# Altium schematic symbol library IC_Si3210.SchLib: 1 symbol
Pins are listed as number, name and electrical type; pins without a type are passive.

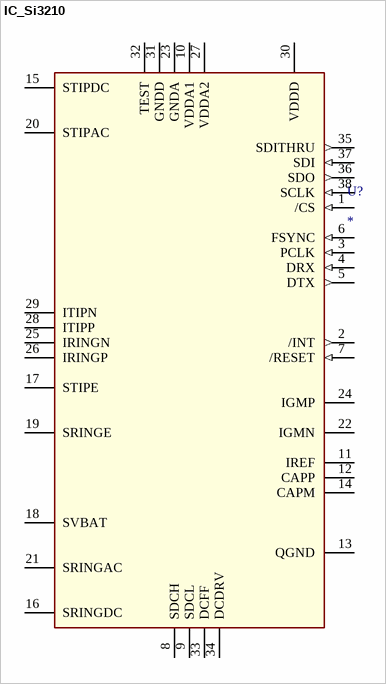
[diagram p0: symbol IC_Si3210]

## IC_Si3210
designator U?
pins: 1 /CS (in), 2 /INT (out), 3 PCLK (in), 4 DRX (in), 5 DTX (out), 6 FSYNC (in), 7 /RESET (in), 8 SDCH, 9 SDCL, 10 VDDA1, 11 IREF, 12 CAPP, 13 QGND, 14 CAPM, 15 STIPDC, 16 SRINGDC, 17 STIPE, 18 SVBAT, 19 SRINGE, 20 STIPAC, 21 SRINGAC, 22 IGMN, 23 GNDA, 24 IGMP, 25 IRINGN, 26 IRINGP, 27 VDDA2, 28 ITIPP, 29 ITIPN, 30 VDDD, 31 GNDD, 32 TEST, 33 DCFF, 34 DCDRV, 35 SDITHRU (out), 36 SDO (out), 37 SDI (in), 38 SCLK (in)